# Altium schematic symbol library 694108402002.SchLib: 1 symbol
Pins are listed as number, name and electrical type; pins without a type are passive.

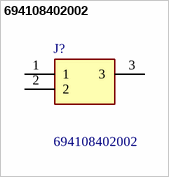
[diagram p0: symbol 694108402002]

## 694108402002
designator J?
Wurth Elektronik Through Hole DC Power Socket WR-DC Series, 5.5mm Vertical 3A; Geometry.Height: 14.3mm; Mouser Part Number: 710-694108402002; Mouser Price/Stock: https://www.mouser.co.uk/ProductDetail/Wurth-Elektronik/694108402002?qs=a9WhcLg8qCzJQpyag5XvEQ%3D%3D; Manufacturer_Name: Wurth Elektronik; Manufacturer_Part_Number: 694108402002; Datasheet Link: https://www.we-online.com/components/products/datasheet/694108402002.pdf
footprint 694108402002
pins: 1, 2, 3